# EAGLE library part MCP73871-2CCI/ML (library mbed-HDK-IC)
Lithium-Ion/Polymer Charger IC 4.2V (1000mA)
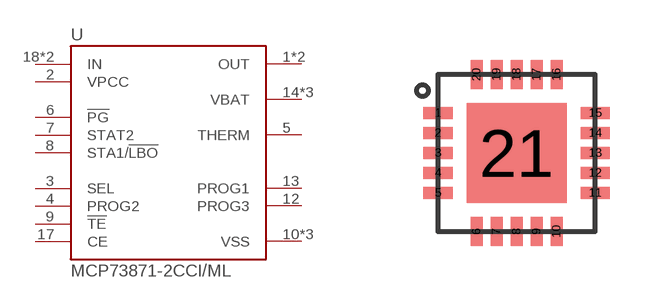
[diagram p20: symbol with the pads of QFN-20; footprint QFN-20]

Designator prefix U

## MCP73871-2CCI/ML (MF: Microchip; MFN: MCP73871-2CCI/ML; OC-DIGIKEY: MCP73871-2CCI/ML-ND; OC-MOUSER: 579-MCP73871-2CCI/ML; OC-NEWARK: 1642489)  [QFN-20]
1  OUT
2  VPCC
3  SEL
4  PROG2
5  THERM
6  !PG
7  STAT2
8  STA1/!LBO
9  !TE
10  VSS
11  VSS
12  PROG3
13  PROG1
14  VBAT
15  VBAT
16  VBAT
17  CE
18  IN
19  IN
20  OUT
21  VSS

## Footprint QFN-20 (pad centres in mm)
smd 0.73 x 0.3: 1 -0.965,2.965; 2 -0.965,2.465; 3 -0.965,1.965; 4 -0.965,1.465; 5 -0.965,0.965; 11 2.965,0.965; 12 2.965,1.465; 13 2.965,1.965; 14 2.965,2.465; 15 2.965,2.965
smd 0.3 x 0.73: 6 0,0; 7 0.5,0; 8 1,0; 9 1.5,0; 10 2,0; 16 2,3.93; 17 1.5,3.93; 18 1,3.93; 19 0.5,3.93; 20 0,3.93
smd 2.5 x 2.5: 21 1,1.965